# Altium schematic symbol library KeyBoard.SchLib: 6 symbols
Pins are listed as number, name and electrical type; pins without a type are passive.

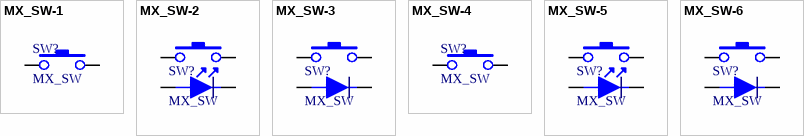
[diagram p0: symbols MX_SW-1 to MX_SW-6]

## MX_SW-1
designator SW?, comment MX_SW
without Fixation pins  1-Pole
footprint MX_SW-1 (without Fixation pins  1-Pole)
pins: 1, 2

## MX_SW-2
designator SW?, comment MX_SW
without Fixation pins  1-Pole w/LED
footprint MX_SW-2 (without Fixation pins  1-Pole w/LED)
pins: 1, 2, 3, 4

## MX_SW-3
designator SW?, comment MX_SW
without Fixation pins  1-Pole w/Diode
footprint MX_SW-3 (without Fixation pins  1-Pole w/Diode)
pins: 1, 2, 3, 4

## MX_SW-4
designator SW?, comment MX_SW
with Fixation pins  1-Pole
footprint MX_SW-4 (with Fixation pins  1-Pole)
pins: 1, 2

## MX_SW-5
designator SW?, comment MX_SW
with Fixation pins  1-Pole w/LED
footprint MX_SW-5 (with Fixation pins  1-Pole w/LED)
pins: 1, 2, 3, 4

## MX_SW-6
designator SW?, comment MX_SW
with Fixation pins  1-Pole w/Diode
footprint MX_SW-6 (with Fixation pins  1-Pole w/Diode)
pins: 1, 2, 3, 4